# Altium footprint library O_JonF_DaveL.PcbLib: 331 footprints (part 10 of 21)
Each footprint in its own frame and in the unit in brackets; x right, y up, seen from the top. Pads: shape width x height; smd on the part's side, far side on the other; paste and mask are expansions set on the pad; w line width, h text height; cw(c..) or ccw(c..) is an arc to the next point about the centre after c.
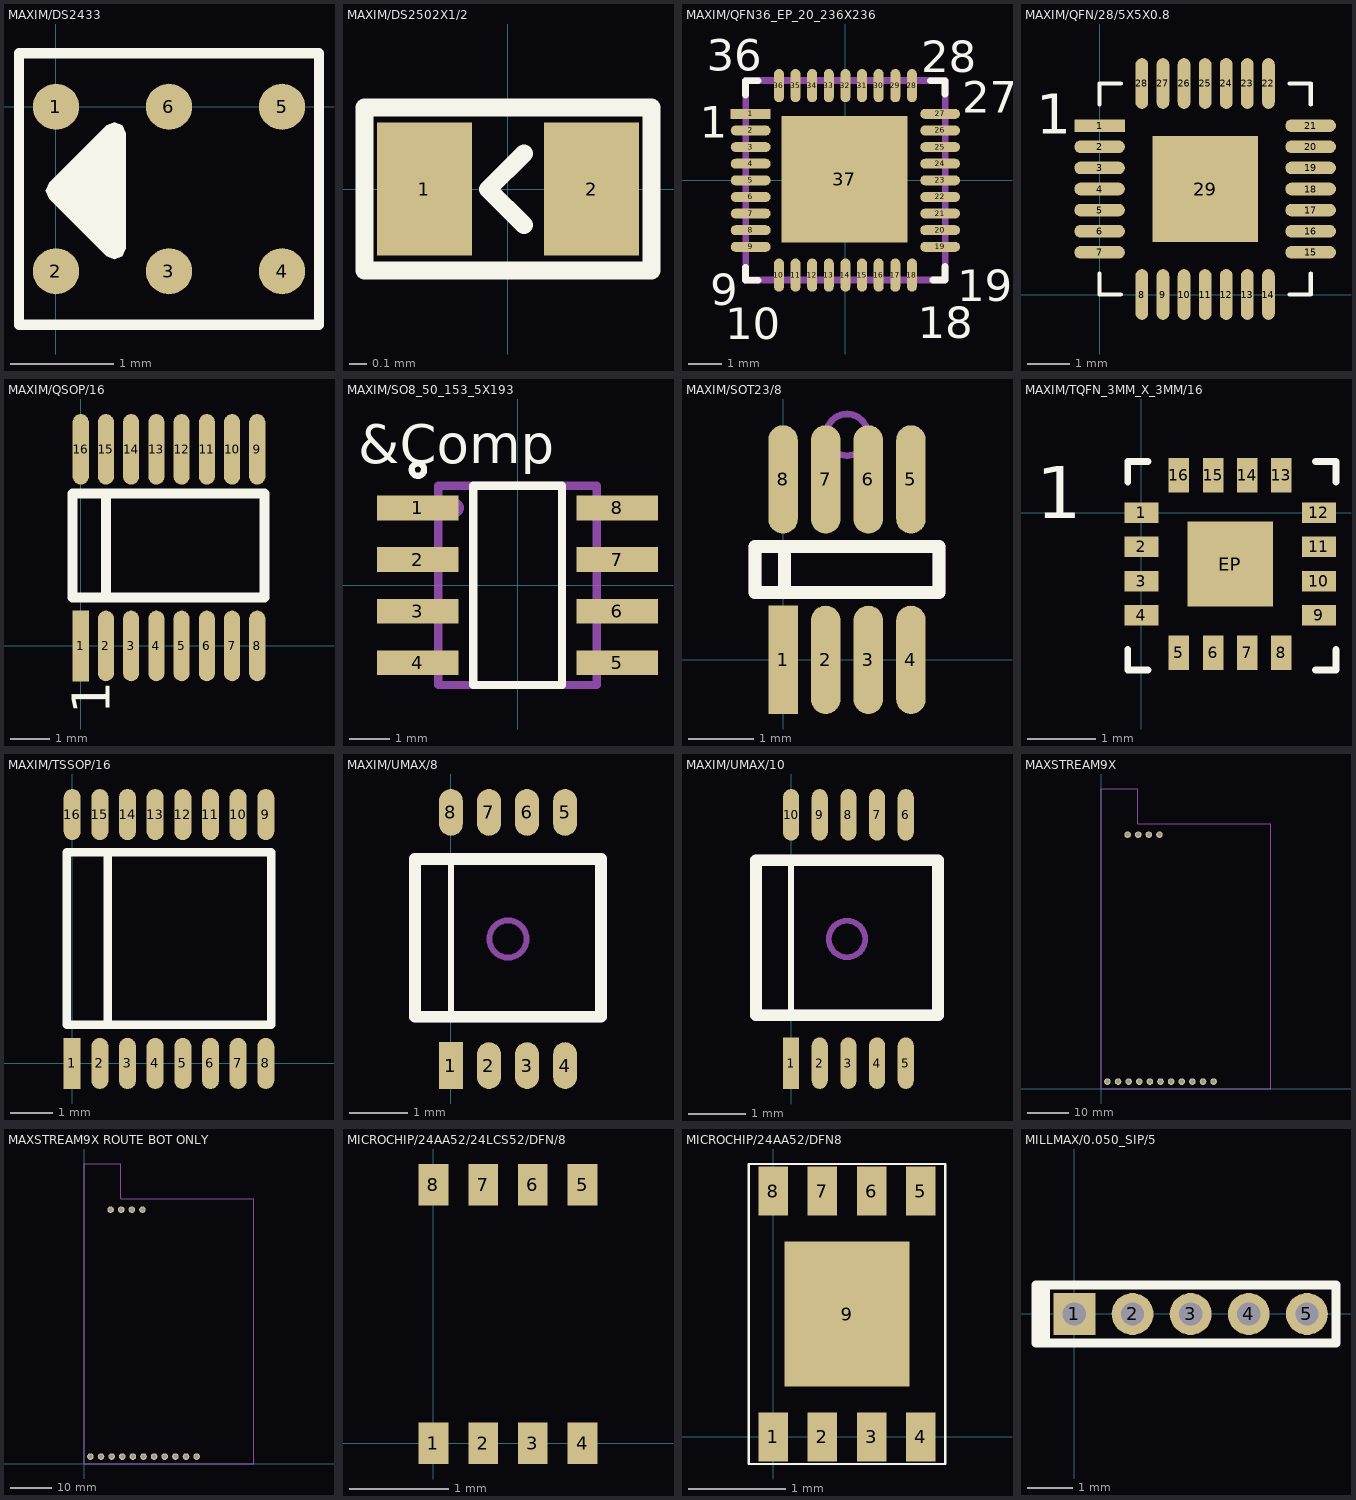
[diagram p9: the footprints below, top view; thin cyan lines are the x and y axes]

## MAXIM/DS2433 [mm]
pads (6):
  round 0.45 smd: 1(0,0) 2(0,-1.6) 3(1.1,-1.6) 4(2.2,-1.6) 5(2.2,0) 6(1.1,0)
Top Overlay:
  region: 0.646,-0.18 0.677,-0.257 0.677,-1.377 0.646,-1.453 0.569,-1.485 0.493,-1.453 0.492,-1.453 -0.067,-0.893 -0.099,-0.817 -0.067,-0.74 0.493,-0.18 0.569,-0.148
  lines w0.1: -0.36,-2.12 2.56,-2.12 2.56,0.52 -0.36,0.52 -0.36,-2.12
  text ".Designator" at -0.375,-2.13 h0.75
Mechanical 1:
  text ".Designator" at 0,9 h1.5
  text ".Pattern" at 0,0 h1.5
  text ".Comment" at 0,6 h1.5

## MAXIM/DS2502X1/2 [mm]
pads (2):
  rect 0.53x0.74 smd: 1(-0.466,0) 2(0.467,0)
Top Overlay:
  lines w0.1: 0.089,-0.201 -0.111,-0.001 0.089,0.199 ; -0.8,-0.455 0.8,-0.455 0.8,0.455 -0.8,0.455 -0.8,-0.455
  text ".Designator" at 0,9 h1.5
Mechanical 1:
  text ".Designator" at 0,9 h1.5
  text ".Comment" at 0,6 h1.5
  text ".Pattern" at 0,0 h1.5

## MAXIM/QFN36_EP_20_236X236 [mil]
pads (37):
  rect 47.23x11.8 smd: 1(-112.2,78.73)
  oval 47.23x11.8 smd: 2(-112.2,59.05) 3(-112.2,39.37) 4(-112.2,19.68) 5(-112.2,0) 6(-112.2,-19.68) 7(-112.2,-39.37) 8(-112.2,-59.05) 9(-112.2,-78.73) 19(112.2,-78.73) 20(112.2,-59.05) 21(112.2,-39.37) 22(112.2,-19.68) 23(112.2,0) 24(112.2,19.68) 25(112.2,39.37) 26(112.2,59.05) 27(112.2,78.73)
  oval 11.8x39.37 smd: 10(-78.73,-112.2) 11(-59.05,-112.2) 12(-39.37,-112.2) 13(-19.68,-112.2) 14(0,-112.2) 15(19.68,-112.2) 16(39.37,-112.2) 17(59.05,-112.2) 18(78.75,-112.2) 28(78.75,112.2) 29(59.05,112.2) 30(39.37,112.2) 31(19.68,112.2) 32(0,112.2) 33(-19.68,112.2) 34(-39.37,112.2) 35(-59.05,112.2) 36(-78.73,112.2)
  rect 149.6x149.6 smd: 37(-1.2,1.2)
Top Overlay:
  lines w8: -118.23,-103 -118.23,-118.2 -103.43,-118.2 ; -118.2,101.2 -118.2,118 -103.4,118 ; 100.73,118.07 117.93,118.07 117.93,101.87 ; 103.33,-118.17 117.93,-118.17 117.93,-102.17
  text "36" at -164.13,129.9 h37.5
  text "28" at 89.67,127.97 h37.5
  text "27" at 138.47,80.23 h37.5
  text "19" at 132.2,-143.23 h37.5
  text "18" at 85.67,-187.3 h37.5
  text "10" at -142.2,-187.9 h37.5
  text "9" at -160.37,-147.9 h37.5
  text "1" at -172.23,50.67 h37.5
  text ".Designator" at -166.43,183.18 h37.5
Mechanical 1:
  lines w8: -118.1,-118.1 -118.1,118.1 118.1,118.1 118.1,-118.1 -118.1,-118.1
  text ".Designator" at -94.47,-34.12 h37.5
  text "36" at -164.67,129.77 h37.5
  text "28" at 89.53,128.37 h37.5
  text "27" at 139.87,78.9 h37.5
  text "19" at 131.93,-143.23 h37.5
  text "18" at 85.27,-187.03 h37.5
  text "10" at -141.67,-191.17 h37.5
  text "9" at -160.63,-147.77 h37.5
  text "1" at -171.97,50.93 h37.5
  text ".Comment" at -159.27,-237.5 h37.5

## MAXIM/QFN/28/5X5X0.8 [mm]
pads (29):
  rect 1.2x0.3 smd: 1(0,4)
  oval 1.2x0.3 smd: 2(0,3.5) 3(0,3) 4(0,2.5) 5(0,2) 6(0,1.5) 7(0,1) 15(5,1) 16(5,1.5) 17(5,2) 18(5,2.5) 19(5,3) 20(5,3.5) 21(5,4)
  oval 0.3x1.2 smd: 8(1,0) 9(1.5,0) 10(2,0) 11(2.5,0) 12(3,0) 13(3.5,0) 14(4,0) 22(4,5) 23(3.5,5) 24(3,5) 25(2.5,5) 26(2,5) 27(1.5,5) 28(1,5)
  rect 2.5x2.5 smd: 29(2.5,2.5)
Top Overlay:
  lines w0.1: 0,0.5 0,0 0.5,0 ; 0,4.5 0,5 0.5,5 ; 4.5,0 5,0 5,0.5 ; 4.5,5 5,5 5,4.5
  text "1" at -1.508,3.81 h0.95
  text ".Designator" at -0.029,-2.146 h0.95
Mechanical 1:
  text ".Designator" at 4.281,7.244 h0.95
  text ".Pattern" at 1.587,13.904 h0.57
  text "1" at 2.651,6.957 h0.95
  text "12" at 10.557,3.358 h0.95
  text ".Comment" at 0.055,-2.853 h0.95

## MAXIM/QSOP/16 [mil]
pads (16):
  rect 16x70 smd: 1(0,0)
  oval 16x70 smd: 2(25,0) 3(50,0) 4(75,0) 5(100,0) 6(125,0) 7(150,0) 8(175,0) 9(175,195) 10(150,195) 11(125,195) 12(100,195) 13(75,195) 14(50,195) 15(25,195) 16(0,195)
Top Overlay:
  lines w10: 25,48 25,150 ; -8,48 -8,151 182,151 182,48 -8,48
  text "1" at 28.55,-67.45 h37.5
  text "." at 3,63 h11.25
  text ".Designator" at 270,-42.5 h56.25
Mechanical 1:
  text ".Designator" at 269,-45.5 h56.25
  text ".Comment" at -16,235 h56.25
  text ".Pattern" at -12,-135 h56.25

## MAXIM/SO8_50_153_5X193 [mil]
pads (8):
  rect 79x24 smd: 1(-96.5,75) 2(-96.5,25) 3(-96.5,-25) 4(-96.5,-75) 5(96.5,-75) 6(96.5,-25) 7(96.5,25) 8(96.5,75)
Top Overlay:
  circle w6: c-96.5,112 r6
  lines w8: -43,-96.5 -43,96.5 43,96.5 43,-96.5 -43,-96.5
  text "&Comp" at -154.5,118.33 h37.5
  text ".Pattern" at 0,0 h37.5
Mechanical 1:
  circle w6: c-61,75 r6
  lines w8: -76.75,-96.5 76.75,-96.5 76.75,96.5 -76.75,96.5 -76.75,-96.5
  text "&Comp" at -44.5,-41.67 h37.5

## MAXIM/SOT23/8 [mm]
pads (8):
  rect 0.45x1.65 smd: 1(0,0)
  oval 0.45x1.65 smd: 2(0.65,0) 3(1.3,0) 4(1.95,0) 5(1.95,2.75) 6(1.3,2.75) 7(0.65,2.75) 8(0,2.75)
Top Overlay:
  lines w0.2: 0.023,1.03 0.023,1.72 ; -0.425,1.025 -0.425,1.725 2.375,1.725 2.375,1.025 -0.425,1.025
  text ".Designator" at -1.765,3.871 h0.95
Mechanical 1:
  lines w0.2: 0.023,1.524 0.023,1.705 ; -0.425,1.025 2.375,1.025 2.375,1.725 -0.425,1.725 -0.425,1.025
  text ".Designator" at -1.36,3.876 h0.95
  text ".Comment" at -6.692,0.658 h0.95
  text ".Pattern" at -1.457,-1.852 h0.57
Mechanical 3:
  lines w0.1: 0.658,3.429 cw(c0.975,3.429) 0.975,3.746 cw(c0.975,3.429) 1.293,3.429 cw(c0.975,3.429) 0.975,3.111 cw(c0.975,3.429) 0.658,3.429

## MAXIM/TQFN_3MM_X_3MM/16 [mm]
pads (17):
  rect 0.5x0.3 smd: 1(0,0) 2(0,-0.5) 3(0,-1) 4(0,-1.5) 9(2.6,-1.5) 10(2.6,-1) 11(2.6,-0.5) 12(2.6,0)
  rect 0.3x0.5 smd: 5(0.55,-2.05) 6(1.05,-2.05) 7(1.55,-2.05) 8(2.05,-2.05) 13(2.05,0.55) 14(1.55,0.55) 15(1.05,0.55) 16(0.55,0.55)
  rect 1.25x1.25 smd: EP(1.3,-0.75)
Top Overlay:
  lines w0.1: -0.2,-2 -0.2,-2.3 0.1,-2.3 ; -0.2,0.45 -0.2,0.75 0.1,0.75 ; 2.55,-2.3 2.85,-2.3 2.85,-2 ; 2.55,0.75 2.85,0.75 2.85,0.45
  text "." at -0.779,0.583 h0.95
  text "1" at -1.542,-0.081 h0.76
  text ".Designator" at -1.484,1.46 h0.76
Mechanical 1:
  text ".Pattern" at 0.458,-1.25 h0.19
  text ".Designator" at 0.416,-0.24 h0.19
  text ".Comment" at 0.458,-0.577 h0.19

## MAXIM/TSSOP/16 [mm]
pads (16):
  rect 0.4x1.2 smd: 1(0,0)
  oval 0.4x1.2 smd: 2(0.65,0) 3(1.3,0) 4(1.95,0) 5(2.6,0) 6(3.25,0) 7(3.9,0) 8(4.55,0) 9(4.55,5.85) 10(3.9,5.85) 11(3.25,5.85) 12(2.6,5.85) 13(1.95,5.85) 14(1.3,5.85) 15(0.65,5.85) 16(0,5.85)
Top Overlay:
  lines w0.2: 0.841,0.943 0.841,4.951 ; -0.124,0.908 -0.124,4.963 4.676,4.963 4.676,0.908 -0.124,0.908
  text ".Designator" at -0.25,6.245 h1.5
Mechanical 1:
  text ".Designator" at -0.261,6.27 h1.5
  text ".Comment" at -0.664,10.014 h1.5
  text ".Pattern" at -0.143,-2.731 h1.5

## MAXIM/UMAX/8 [mil]
pads (8):
  rect 16x31.5 smd: 1(0,49.76)
  oval 16x31.5 smd: 2(25.6,49.76) 3(51.2,49.76) 4(76.8,49.76) 5(76.8,220.24) 6(51.2,220.24) 7(25.6,220.24) 8(0,220.24)
Top Overlay:
  lines w3.94: 0,82.68 0,188.98
  lines w8: -24.1,82.68 100.9,82.68 100.9,188.98 -24.1,188.98 -24.1,82.68
  text ".Designator" at -25.41,79.39 h37.5
Mechanical 1:
  lines w3.94: 0,82.68 0,188.98
  lines w8: -24.1,82.68 100.9,82.68 100.9,188.98 -24.1,188.98 -24.1,82.68
  text ".Designator" at -26.19,79.39 h37.5
  text ".Comment" at -78.63,79.45 h37.5
  text ".Pattern" at -107.76,139.1 h22.5
Mechanical 3:
  lines w4: 25.9,135 cw(c38.4,135) 38.4,147.5 cw(c38.4,135) 50.9,135 cw(c38.4,135) 38.4,122.5 cw(c38.4,135) 25.9,135

## MAXIM/UMAX/10 [mm]
pads (10):
  rect 0.28x0.9 smd: 1(0,1.264)
  oval 0.28x0.9 smd: 2(0.5,1.264) 3(1,1.264) 4(1.5,1.264) 5(2,1.264) 6(2,5.594) 7(1.5,5.594) 8(1,5.594) 9(0.5,5.594) 10(0,5.594)
Top Overlay:
  lines w0.1: 0,2.1 0,4.8
  lines w0.203: -0.612,2.1 2.563,2.1 2.563,4.8 -0.612,4.8 -0.612,2.1
  text ".Designator" at -0.645,2.016 h0.95
Mechanical 1:
  lines w0.1: 0,2.1 0,4.8
  lines w0.203: -0.612,2.1 2.563,2.1 2.563,4.8 -0.612,4.8 -0.612,2.1
  text ".Designator" at -0.665,2.016 h0.95
  text ".Comment" at -1.997,2.018 h0.95
  text ".Pattern" at -2.737,3.533 h0.57
Mechanical 3:
  lines w0.102: 0.658,3.429 cw(c0.975,3.429) 0.975,3.746 cw(c0.975,3.429) 1.293,3.429 cw(c0.975,3.429) 0.975,3.111 cw(c0.975,3.429) 0.658,3.429

## MAXSTREAM9X [mil]
pads (15):
  round 62 hole 38: 1(60,70) 2(160,70) 3(260,70) 4(360,70) 5(460,70) 6(560,70) 7(660,70) 8(760,70) 9(860,70) 10(960,70) 11(1060,70) 12(250,2395) 13(350,2395) 14(450,2395) 15(550,2395)
Top Overlay:
  text ".Designator" at 575,1462.5 h56.25
Mechanical 1:
  lines w1: 0,0 0,2825 345,2825 345,2500 1600,2500 1600,0 0,0
  text ".Designator" at 575,1462.5 h56.25
  text ".Comment" at 575,1350 h56.25
  text ".Pattern" at 575,1125 h56.25

## MAXSTREAM9X ROUTE BOT ONLY [mil]
pads (15):
  round 62 hole 38: 1(60,70) 2(160,70) 3(260,70) 4(360,70) 5(460,70) 6(560,70) 7(660,70) 8(760,70) 9(860,70) 10(960,70) 11(1060,70) 12(250,2395) 13(350,2395) 14(450,2395) 15(550,2395)
Top Overlay:
  text ".Designator" at 575,1462.5 h56.25
Mechanical 1:
  lines w1: 0,0 0,2825 345,2825 345,2500 1600,2500 1600,0 0,0
  text ".Designator" at 575,1462.5 h56.25
  text ".Comment" at 575,1350 h56.25
  text ".Pattern" at 575,1125 h56.25

## MICROCHIP/24AA52/24LCS52/DFN/8 [mm]
pads (8):
  rect 0.3x0.42 smd: 1(0,0) 2(0.5,0) 3(1,0) 4(1.5,0) 5(1.5,2.6) 6(1,2.6) 7(0.5,2.6) 8(0,2.6)
Top Overlay:
  text ".Designator" at 0,9 h1.5
Mechanical 1:
  text ".Designator" at 0,9 h1.5
  text ".Comment" at 0,6 h1.5
  text ".Pattern" at 0,0 h1.5

## MICROCHIP/24AA52/DFN8 [mil]
pads (9):
  rect 12x20 smd: 1(0,0) 2(20,0) 3(40,0) 4(60,0) 5(60,100) 6(40,100) 7(20,100) 8(0,100)
  rect 51x59 smd: 9(30,50)
Top Overlay:
  lines w1: -10,-11 70,-11 70,111 -10,111 -10,-11
  text ".Designator" at -9,112.5 h7.5

## MILLMAX/0.050_SIP/5 [mil]
pads (5):
  rect 36x36 / inner round 36 / far side rect 36x36 hole 20: 1(0,0)
  round 36 hole 20: 2(50,0) 3(100,0) 4(150,0) 5(200,0)
Top Overlay:
  lines w8: -25,-25 -33,-25 -33,25 -25,25 ; -25,-25 225,-25 225,25 -25,25 ; -25,-25 -25,25